# Altium schematic symbol library TPS6102x.Schlib: 1 symbol
Pins are listed as number, name and electrical type; pins without a type are passive.

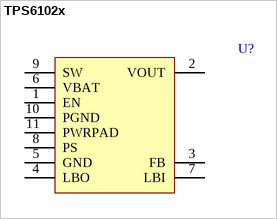
[diagram p0: symbol TPS6102x]

## TPS6102x
designator U?
pins: 1 EN, 2 VOUT, 3 FB (power), 4 LBO, 5 GND, 6 VBAT, 7 LBI, 8 PS, 9 SW, 10 PGND, 11 PWRPAD
1 alternate drawing of the same symbol